# EAGLE library part HSEC8-160-01-XX-DV-A (library HSEC8-1xx-01-XX-DV-A)
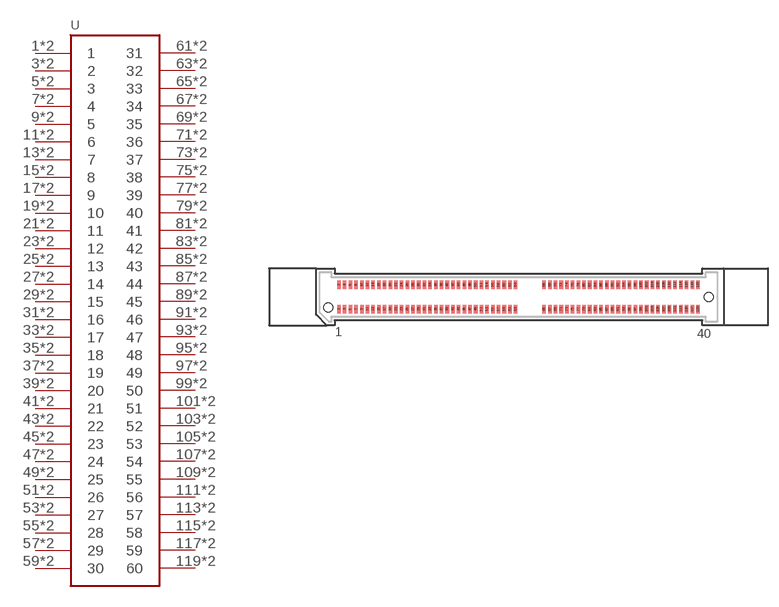
[diagram p3: symbol with the pads of HSEC8-160-01-XX-DV-A; footprint HSEC8-160-01-XX-DV-A]

Designator prefix -

## HSEC8-160-01-XX-DV-A  [HSEC8-160-01-XX-DV-A]
1  1
2  1
3  2
4  2
5  3
6  3
7  4
8  4
9  5
10  5
11  6
12  6
13  7
14  7
15  8
16  8
17  9
18  9
19  10
20  10
21  11
22  11
23  12
24  12
25  13
26  13
27  14
28  14
29  15
30  15
31  16
32  16
33  17
34  17
35  18
36  18
37  19
38  19
39  20
40  20
41  21
42  21
43  22
44  22
45  23
46  23
47  24
48  24
49  25
50  25
51  26
52  26
53  27
54  27
55  28
56  28
57  29
58  29
59  30
60  30
61  31
62  31
63  32
64  32
65  33
66  33
67  34
68  34
69  35
70  35
71  36
72  36
73  37
74  37
75  38
76  38
77  39
78  39
79  40
80  40
81  41
82  41
83  42
84  42
85  43
86  43
87  44
88  44
89  45
90  45
91  46
92  46
93  47
94  47
95  48
96  48
97  49
98  49
99  50
100  50
101  51
102  51
103  52
104  52
105  53
106  53
107  54
108  54
109  55
110  55
111  56
112  56
113  57
114  57
115  58
116  58
117  59
118  59
119  60
120  60

## Footprint HSEC8-160-01-XX-DV-A (pad centres in mm)
0.8MM HIGH SPEED EDGE CARD ASSEMBLY. MANUFACTURER:SAMTEC.
smd 0.5 x 1.2: 1 -25.2,-1.7; 2 -25.2,1.7; 3 -24.4,-1.7; 4 -24.4,1.7; 5 -23.6,-1.7; 6 -23.6,1.7; 7 -22.8,-1.7; 8 -22.8,1.7; 9 -22,-1.7; 10 -22,1.7; 11 -21.2,-1.7; 12 -21.2,1.7; 13 -20.4,-1.7; 14 -20.4,1.7; 15 -19.6,-1.7; 16 -19.6,1.7; 17 -18.8,-1.7; 18 -18.8,1.7; 19 -18,-1.7; 20 -18,1.7; 21 -17.2,-1.7; 22 -17.2,1.7; 23 -16.4,-1.7; 24 -16.4,1.7; 25 -15.6,-1.7; 26 -15.6,1.7; 27 -14.8,-1.7; 28 -14.8,1.7; 29 -14,-1.7; 30 -14,1.7; 31 -13.2,-1.7; 32 -13.2,1.7; 33 -12.4,-1.7; 34 -12.4,1.7; 35 -11.6,-1.7; 36 -11.6,1.7; 37 -10.8,-1.7; 38 -10.8,1.7; 39 -10,-1.7; 40 -10,1.7; 41 -9.2,-1.7; 42 -9.2,1.7; 43 -8.4,-1.7; 44 -8.4,1.7; 45 -7.6,-1.7; 46 -7.6,1.7; 47 -6.8,-1.7; 48 -6.8,1.7; 49 -6,-1.7; 50 -6,1.7; 51 -5.2,-1.7; 52 -5.2,1.7; 53 -4.4,-1.7; 54 -4.4,1.7; 55 -3.6,-1.7; 56 -3.6,1.7; 57 -2.8,-1.7; 58 -2.8,1.7; 59 -2,-1.7; 60 -2,1.7; 61 -1.2,-1.7; 62 -1.2,1.7; 63 -0.4,-1.7; 64 -0.4,1.7; 65 3.6,-1.7; 66 3.6,1.7; 67 4.4,-1.7; 68 4.4,1.7; 69 5.2,-1.7; 70 5.2,1.7; 71 6,-1.7; 72 6,1.7; 73 6.8,-1.7; 74 6.8,1.7; 75 7.6,-1.7; 76 7.6,1.7; 77 8.4,-1.7; 78 8.4,1.7; 79 9.2,-1.7; 80 9.2,1.7; 81 10,-1.7; 82 10,1.7; 83 10.8,-1.7; 84 10.8,1.7; 85 11.6,-1.7; 86 11.6,1.7; 87 12.4,-1.7; 88 12.4,1.7; 89 13.2,-1.7; 90 13.2,1.7; 91 14,-1.7; 92 14,1.7; 93 14.8,-1.7; 94 14.8,1.7; 95 15.6,-1.7; 96 15.6,1.7; 97 16.4,-1.7; 98 16.4,1.7; 99 17.2,-1.7; 100 17.2,1.7; 101 18,-1.7; 102 18,1.7; 103 18.8,-1.7; 104 18.8,1.7; 105 19.6,-1.7; 106 19.6,1.7; 107 20.4,-1.7; 108 20.4,1.7; 109 21.2,-1.7; 110 21.2,1.7; 111 22,-1.7; 112 22,1.7; 113 22.8,-1.7; 114 22.8,1.7; 115 23.6,-1.7; 116 23.6,1.7; 117 24.4,-1.7; 118 24.4,1.7; 119 25.2,-1.7; 120 25.2,1.7
hole 1.27 at -26.7,-1.5
hole 1.27 at 26.7,0